# Altium integrated library Linear Technology Power Management LDO Linear Regulators.IntLib: 2339 symbols (part 5 of 131)
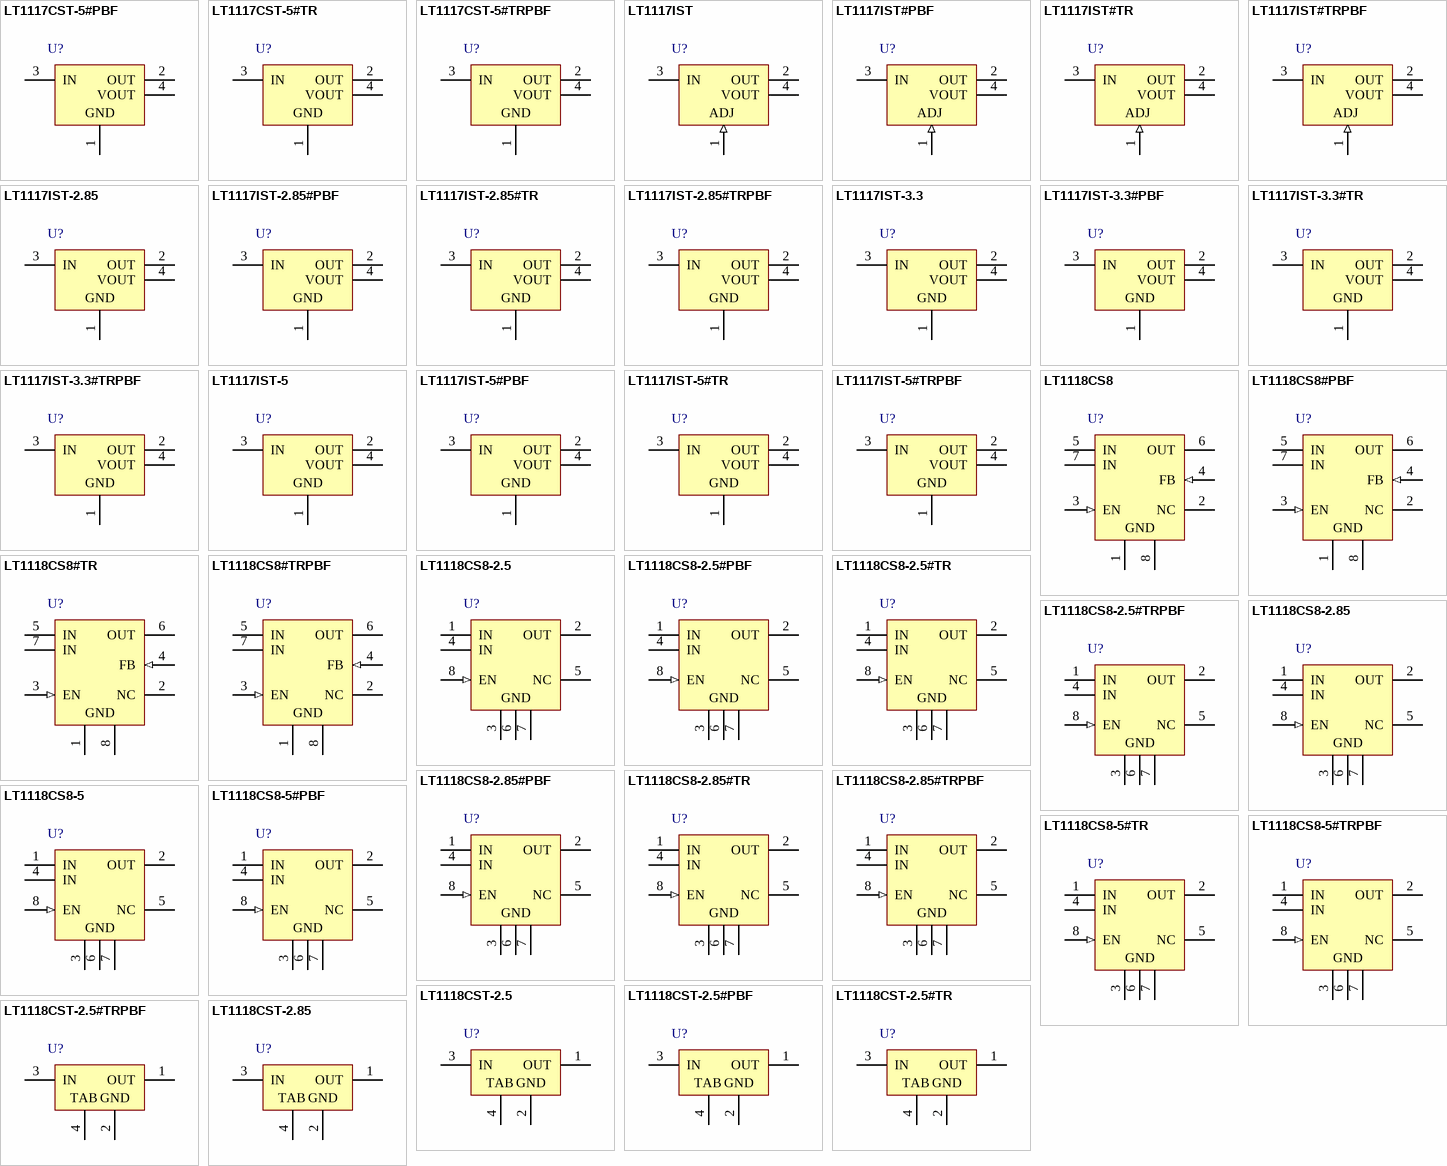
[diagram p73: symbols LT1117CST-5#PBF to LT1118CST-2.85]

## LT1118CS8-2.5#TR
designator U?
Low IQ, Low Dropout, 800 mA, Source and Sink Regulator, 3 to 15 V Vin, 2.5 V Vout, 8-pin SOIC (S8-8), 0 to 70 degC, Tape and Reel; Manufacturer: Linear Technology; PartNumber: LT1118CS8-2.5#TR; Discrete Pass Element: no; Dropout Voltage(V): 1; Iout(mA): 800; Isupply(mA): 0.6; Output Voltage: 2.5 V; PSRR(dB): 80; Vin Max(V): 15; Vin Min(V): 3; DatasheetVersion: Rev. D; PackageVersion: Rev. G, 03/2012; PackageReference: S8-8; PackageDescription: 8-Pin Plastic Small Outline (Narrow .150 Inch), Body 4.9 x 3.9 mm, Pitch 1.27 mm; Supplier 1: Digi-Key; Supplier Part Number 1: LT1118CS8-2.5#TR-ND; Number of Outputs: 1; Packing: Tape and Reel; RoHS: FALSE; Shutdown Current(uA): 1; Mounting Technology: Surface Mount; ComponentLink1Description: Manufacturer URL; ComponentLink1URL: http://www.linear.com/; ComponentLink2Description: Datasheet; ComponentLink2URL: http://cds.linear.com/docs/en/datasheet/1118fd.pdf; ComponentLink3Description: Package Specification; ComponentLink3URL: http://cds.linear.com/docs/en/packaging/05081610_G_SO8.pdf
footprint LT-S8-8_N (SOIC, 8-Leads, Body 4.9x3.9mm, Pitch 1.27mm, IPC Medium Density)
footprint LT-S8-8_L (SOIC, 8-Leads, Body 4.9x3.9mm, Pitch 1.27mm, IPC High Density)
footprint LT-S8-8_M (SOIC, 8-Leads, Body 4.9x3.9mm, Pitch 1.27mm, IPC Low Density)
pins: 1 IN (power) "Input Supply Pin. This pin should be decoupled with a 1uF or larger low ESR capacitor. The two IN pins on the SO-8 package must be directly connected on the printed circuit board to prevent voltage drops between the two (See Datasheet)", 2 OUT (power) "Regulated Output Voltage. Output can source or sink current. Current limit for sourcing and sinking current is provided to protect the device from fault conditons. The output must have a low ESR output fi lter capacitor. (See Datasheet)", 3 GND (power) "Ground Pin. The multiple GND pins on the SO-8 package are internally connected, but lowest load regulation errors will result if these pins are tightly connected on the printed circuit board. This will also aid heat (See Datasheet)", 4 IN (power) "Input Supply Pin. This pin should be decoupled with a 1uF or larger low ESR capacitor. The two IN pins on the SO-8 package must be directly connected on the printed circuit board to prevent voltage drops between the two (See Datasheet)", 5 NC, 6 GND (power) "Ground Pin. The multiple GND pins on the SO-8 package are internally connected, but lowest load regulation errors will result if these pins are tightly connected on the printed circuit board. This will also aid heat (See Datasheet)", 7 GND (power) "Ground Pin. The multiple GND pins on the SO-8 package are internally connected, but lowest load regulation errors will result if these pins are tightly connected on the printed circuit board. This will also aid heat (See Datasheet)", 8 EN (in) "TTL/CMOS Logic Input. A high level allows normal operation. A low level reduces supply current to zero. This pin is internally connected to VIN on 3-lead ST packaged devices."

## LT1118CS8-2.5#TRPBF
designator U?
Low IQ, Low Dropout, 800 mA, Source and Sink Regulator, 3 to 15 V Vin, 2.5 V Vout, 8-pin SOIC (S8-8), 0 to 70 degC, Pb-Free, Tape and Reel; Manufacturer: Linear Technology; PartNumber: LT1118CS8-2.5#TRPBF; Discrete Pass Element: no; Dropout Voltage(V): 1; Iout(mA): 800; Isupply(mA): 0.6; Output Voltage: 2.5 V; PSRR(dB): 80; Vin Max(V): 15; Vin Min(V): 3; DatasheetVersion: Rev. D; PackageVersion: Rev. G, 03/2012; PackageReference: S8-8; PackageDescription: 8-Pin Plastic Small Outline (Narrow .150 Inch), Body 4.9 x 3.9 mm, Pitch 1.27 mm; Supplier 1: Digi-Key; Supplier Part Number 1: LT1118CS8-2.5#TRPBF-ND; Number of Outputs: 1; Packing: Tape and Reel; RoHS: TRUE; Shutdown Current(uA): 1; Mounting Technology: Surface Mount; ComponentLink1Description: Manufacturer URL; ComponentLink1URL: http://www.linear.com/; ComponentLink2Description: Datasheet; ComponentLink2URL: http://cds.linear.com/docs/en/datasheet/1118fd.pdf; ComponentLink3Description: Package Specification; ComponentLink3URL: http://cds.linear.com/docs/en/packaging/05081610_G_SO8.pdf
footprint LT-S8-8_N (SOIC, 8-Leads, Body 4.9x3.9mm, Pitch 1.27mm, IPC Medium Density)
footprint LT-S8-8_L (SOIC, 8-Leads, Body 4.9x3.9mm, Pitch 1.27mm, IPC High Density)
footprint LT-S8-8_M (SOIC, 8-Leads, Body 4.9x3.9mm, Pitch 1.27mm, IPC Low Density)
pins: 1 IN (power) "Input Supply Pin. This pin should be decoupled with a 1uF or larger low ESR capacitor. The two IN pins on the SO-8 package must be directly connected on the printed circuit board to prevent voltage drops between the two (See Datasheet)", 2 OUT (power) "Regulated Output Voltage. Output can source or sink current. Current limit for sourcing and sinking current is provided to protect the device from fault conditons. The output must have a low ESR output fi lter capacitor. (See Datasheet)", 3 GND (power) "Ground Pin. The multiple GND pins on the SO-8 package are internally connected, but lowest load regulation errors will result if these pins are tightly connected on the printed circuit board. This will also aid heat (See Datasheet)", 4 IN (power) "Input Supply Pin. This pin should be decoupled with a 1uF or larger low ESR capacitor. The two IN pins on the SO-8 package must be directly connected on the printed circuit board to prevent voltage drops between the two (See Datasheet)", 5 NC, 6 GND (power) "Ground Pin. The multiple GND pins on the SO-8 package are internally connected, but lowest load regulation errors will result if these pins are tightly connected on the printed circuit board. This will also aid heat (See Datasheet)", 7 GND (power) "Ground Pin. The multiple GND pins on the SO-8 package are internally connected, but lowest load regulation errors will result if these pins are tightly connected on the printed circuit board. This will also aid heat (See Datasheet)", 8 EN (in) "TTL/CMOS Logic Input. A high level allows normal operation. A low level reduces supply current to zero. This pin is internally connected to VIN on 3-lead ST packaged devices."

## LT1118CS8-2.85
designator U?
Low IQ, Low Dropout, 800 mA, Source and Sink Regulator, 3 to 15 V Vin, 2.85 V Vout, 8-pin SOIC (S8-8), 0 to 70 degC; Manufacturer: Linear Technology; PartNumber: LT1118CS8-2.85; Discrete Pass Element: no; Dropout Voltage(V): 1; Iout(mA): 800; Isupply(mA): 0.6; Output Voltage: 2.85 V; PSRR(dB): 80; Vin Max(V): 15; Vin Min(V): 3; DatasheetVersion: Rev. D; PackageVersion: Rev. G, 03/2012; PackageReference: S8-8; PackageDescription: 8-Pin Plastic Small Outline (Narrow .150 Inch), Body 4.9 x 3.9 mm, Pitch 1.27 mm; Number of Outputs: 1; RoHS: FALSE; Shutdown Current(uA): 1; Mounting Technology: Surface Mount; ComponentLink1Description: Manufacturer URL; ComponentLink1URL: http://www.linear.com/; ComponentLink2Description: Datasheet; ComponentLink2URL: http://cds.linear.com/docs/en/datasheet/1118fd.pdf; ComponentLink3Description: Package Specification; ComponentLink3URL: http://cds.linear.com/docs/en/packaging/05081610_G_SO8.pdf
footprint LT-S8-8_N (SOIC, 8-Leads, Body 4.9x3.9mm, Pitch 1.27mm, IPC Medium Density)
footprint LT-S8-8_L (SOIC, 8-Leads, Body 4.9x3.9mm, Pitch 1.27mm, IPC High Density)
footprint LT-S8-8_M (SOIC, 8-Leads, Body 4.9x3.9mm, Pitch 1.27mm, IPC Low Density)
pins: 1 IN (power) "Input Supply Pin. This pin should be decoupled with a 1uF or larger low ESR capacitor. The two IN pins on the SO-8 package must be directly connected on the printed circuit board to prevent voltage drops between the two (See Datasheet)", 2 OUT (power) "Regulated Output Voltage. Output can source or sink current. Current limit for sourcing and sinking current is provided to protect the device from fault conditons. The output must have a low ESR output fi lter capacitor. (See Datasheet)", 3 GND (power) "Ground Pin. The multiple GND pins on the SO-8 package are internally connected, but lowest load regulation errors will result if these pins are tightly connected on the printed circuit board. This will also aid heat (See Datasheet)", 4 IN (power) "Input Supply Pin. This pin should be decoupled with a 1uF or larger low ESR capacitor. The two IN pins on the SO-8 package must be directly connected on the printed circuit board to prevent voltage drops between the two (See Datasheet)", 5 NC, 6 GND (power) "Ground Pin. The multiple GND pins on the SO-8 package are internally connected, but lowest load regulation errors will result if these pins are tightly connected on the printed circuit board. This will also aid heat (See Datasheet)", 7 GND (power) "Ground Pin. The multiple GND pins on the SO-8 package are internally connected, but lowest load regulation errors will result if these pins are tightly connected on the printed circuit board. This will also aid heat (See Datasheet)", 8 EN (in) "TTL/CMOS Logic Input. A high level allows normal operation. A low level reduces supply current to zero. This pin is internally connected to VIN on 3-lead ST packaged devices."

## LT1118CS8-2.85#PBF
designator U?
Low IQ, Low Dropout, 800 mA, Source and Sink Regulator, 3 to 15 V Vin, 2.85 V Vout, 8-pin SOIC (S8-8), 0 to 70 degC, Pb-Free; Manufacturer: Linear Technology; PartNumber: LT1118CS8-2.85#PBF; Discrete Pass Element: no; Dropout Voltage(V): 1; Iout(mA): 800; Isupply(mA): 0.6; Output Voltage: 2.85 V; PSRR(dB): 80; Vin Max(V): 15; Vin Min(V): 3; DatasheetVersion: Rev. D; PackageVersion: Rev. G, 03/2012; PackageReference: S8-8; PackageDescription: 8-Pin Plastic Small Outline (Narrow .150 Inch), Body 4.9 x 3.9 mm, Pitch 1.27 mm; Supplier 1: Digi-Key; Supplier Part Number 1: LT1118CS8-2.85#PBF-ND; Number of Outputs: 1; RoHS: TRUE; Shutdown Current(uA): 1; Mounting Technology: Surface Mount; ComponentLink1Description: Manufacturer URL; ComponentLink1URL: http://www.linear.com/; ComponentLink2Description: Datasheet; ComponentLink2URL: http://cds.linear.com/docs/en/datasheet/1118fd.pdf; ComponentLink3Description: Package Specification; ComponentLink3URL: http://cds.linear.com/docs/en/packaging/05081610_G_SO8.pdf
footprint LT-S8-8_N (SOIC, 8-Leads, Body 4.9x3.9mm, Pitch 1.27mm, IPC Medium Density)
footprint LT-S8-8_L (SOIC, 8-Leads, Body 4.9x3.9mm, Pitch 1.27mm, IPC High Density)
footprint LT-S8-8_M (SOIC, 8-Leads, Body 4.9x3.9mm, Pitch 1.27mm, IPC Low Density)
pins: 1 IN (power) "Input Supply Pin. This pin should be decoupled with a 1uF or larger low ESR capacitor. The two IN pins on the SO-8 package must be directly connected on the printed circuit board to prevent voltage drops between the two (See Datasheet)", 2 OUT (power) "Regulated Output Voltage. Output can source or sink current. Current limit for sourcing and sinking current is provided to protect the device from fault conditons. The output must have a low ESR output fi lter capacitor. (See Datasheet)", 3 GND (power) "Ground Pin. The multiple GND pins on the SO-8 package are internally connected, but lowest load regulation errors will result if these pins are tightly connected on the printed circuit board. This will also aid heat (See Datasheet)", 4 IN (power) "Input Supply Pin. This pin should be decoupled with a 1uF or larger low ESR capacitor. The two IN pins on the SO-8 package must be directly connected on the printed circuit board to prevent voltage drops between the two (See Datasheet)", 5 NC, 6 GND (power) "Ground Pin. The multiple GND pins on the SO-8 package are internally connected, but lowest load regulation errors will result if these pins are tightly connected on the printed circuit board. This will also aid heat (See Datasheet)", 7 GND (power) "Ground Pin. The multiple GND pins on the SO-8 package are internally connected, but lowest load regulation errors will result if these pins are tightly connected on the printed circuit board. This will also aid heat (See Datasheet)", 8 EN (in) "TTL/CMOS Logic Input. A high level allows normal operation. A low level reduces supply current to zero. This pin is internally connected to VIN on 3-lead ST packaged devices."

## LT1118CS8-2.85#TR
designator U?
Low IQ, Low Dropout, 800 mA, Source and Sink Regulator, 3 to 15 V Vin, 2.85 V Vout, 8-pin SOIC (S8-8), 0 to 70 degC, Tape and Reel; Manufacturer: Linear Technology; PartNumber: LT1118CS8-2.85#TR; Discrete Pass Element: no; Dropout Voltage(V): 1; Iout(mA): 800; Isupply(mA): 0.6; Output Voltage: 2.85 V; PSRR(dB): 80; Vin Max(V): 15; Vin Min(V): 3; DatasheetVersion: Rev. D; PackageVersion: Rev. G, 03/2012; PackageReference: S8-8; PackageDescription: 8-Pin Plastic Small Outline (Narrow .150 Inch), Body 4.9 x 3.9 mm, Pitch 1.27 mm; Supplier 1: Digi-Key; Supplier Part Number 1: LT1118CS8-2.85#TR-ND; Number of Outputs: 1; Packing: Tape and Reel; RoHS: FALSE; Shutdown Current(uA): 1; Mounting Technology: Surface Mount; ComponentLink1Description: Manufacturer URL; ComponentLink1URL: http://www.linear.com/; ComponentLink2Description: Datasheet; ComponentLink2URL: http://cds.linear.com/docs/en/datasheet/1118fd.pdf; ComponentLink3Description: Package Specification; ComponentLink3URL: http://cds.linear.com/docs/en/packaging/05081610_G_SO8.pdf
footprint LT-S8-8_N (SOIC, 8-Leads, Body 4.9x3.9mm, Pitch 1.27mm, IPC Medium Density)
footprint LT-S8-8_L (SOIC, 8-Leads, Body 4.9x3.9mm, Pitch 1.27mm, IPC High Density)
footprint LT-S8-8_M (SOIC, 8-Leads, Body 4.9x3.9mm, Pitch 1.27mm, IPC Low Density)
pins: 1 IN (power) "Input Supply Pin. This pin should be decoupled with a 1uF or larger low ESR capacitor. The two IN pins on the SO-8 package must be directly connected on the printed circuit board to prevent voltage drops between the two (See Datasheet)", 2 OUT (power) "Regulated Output Voltage. Output can source or sink current. Current limit for sourcing and sinking current is provided to protect the device from fault conditons. The output must have a low ESR output fi lter capacitor. (See Datasheet)", 3 GND (power) "Ground Pin. The multiple GND pins on the SO-8 package are internally connected, but lowest load regulation errors will result if these pins are tightly connected on the printed circuit board. This will also aid heat (See Datasheet)", 4 IN (power) "Input Supply Pin. This pin should be decoupled with a 1uF or larger low ESR capacitor. The two IN pins on the SO-8 package must be directly connected on the printed circuit board to prevent voltage drops between the two (See Datasheet)", 5 NC, 6 GND (power) "Ground Pin. The multiple GND pins on the SO-8 package are internally connected, but lowest load regulation errors will result if these pins are tightly connected on the printed circuit board. This will also aid heat (See Datasheet)", 7 GND (power) "Ground Pin. The multiple GND pins on the SO-8 package are internally connected, but lowest load regulation errors will result if these pins are tightly connected on the printed circuit board. This will also aid heat (See Datasheet)", 8 EN (in) "TTL/CMOS Logic Input. A high level allows normal operation. A low level reduces supply current to zero. This pin is internally connected to VIN on 3-lead ST packaged devices."

## LT1118CS8-2.85#TRPBF
designator U?
Low IQ, Low Dropout, 800 mA, Source and Sink Regulator, 3 to 15 V Vin, 2.85 V Vout, 8-pin SOIC (S8-8), 0 to 70 degC, Pb-Free, Tape and Reel; Manufacturer: Linear Technology; PartNumber: LT1118CS8-2.85#TRPBF; Discrete Pass Element: no; Dropout Voltage(V): 1; Iout(mA): 800; Isupply(mA): 0.6; Output Voltage: 2.85 V; PSRR(dB): 80; Vin Max(V): 15; Vin Min(V): 3; DatasheetVersion: Rev. D; PackageVersion: Rev. G, 03/2012; PackageReference: S8-8; PackageDescription: 8-Pin Plastic Small Outline (Narrow .150 Inch), Body 4.9 x 3.9 mm, Pitch 1.27 mm; Supplier 1: Digi-Key; Supplier Part Number 1: LT1118CS8-2.85#TRPBF-ND; Number of Outputs: 1; Packing: Tape and Reel; RoHS: TRUE; Shutdown Current(uA): 1; Mounting Technology: Surface Mount; ComponentLink1Description: Manufacturer URL; ComponentLink1URL: http://www.linear.com/; ComponentLink2Description: Datasheet; ComponentLink2URL: http://cds.linear.com/docs/en/datasheet/1118fd.pdf; ComponentLink3Description: Package Specification; ComponentLink3URL: http://cds.linear.com/docs/en/packaging/05081610_G_SO8.pdf
footprint LT-S8-8_N (SOIC, 8-Leads, Body 4.9x3.9mm, Pitch 1.27mm, IPC Medium Density)
footprint LT-S8-8_L (SOIC, 8-Leads, Body 4.9x3.9mm, Pitch 1.27mm, IPC High Density)
footprint LT-S8-8_M (SOIC, 8-Leads, Body 4.9x3.9mm, Pitch 1.27mm, IPC Low Density)
pins: 1 IN (power) "Input Supply Pin. This pin should be decoupled with a 1uF or larger low ESR capacitor. The two IN pins on the SO-8 package must be directly connected on the printed circuit board to prevent voltage drops between the two (See Datasheet)", 2 OUT (power) "Regulated Output Voltage. Output can source or sink current. Current limit for sourcing and sinking current is provided to protect the device from fault conditons. The output must have a low ESR output fi lter capacitor. (See Datasheet)", 3 GND (power) "Ground Pin. The multiple GND pins on the SO-8 package are internally connected, but lowest load regulation errors will result if these pins are tightly connected on the printed circuit board. This will also aid heat (See Datasheet)", 4 IN (power) "Input Supply Pin. This pin should be decoupled with a 1uF or larger low ESR capacitor. The two IN pins on the SO-8 package must be directly connected on the printed circuit board to prevent voltage drops between the two (See Datasheet)", 5 NC, 6 GND (power) "Ground Pin. The multiple GND pins on the SO-8 package are internally connected, but lowest load regulation errors will result if these pins are tightly connected on the printed circuit board. This will also aid heat (See Datasheet)", 7 GND (power) "Ground Pin. The multiple GND pins on the SO-8 package are internally connected, but lowest load regulation errors will result if these pins are tightly connected on the printed circuit board. This will also aid heat (See Datasheet)", 8 EN (in) "TTL/CMOS Logic Input. A high level allows normal operation. A low level reduces supply current to zero. This pin is internally connected to VIN on 3-lead ST packaged devices."

## LT1118CS8-5
designator U?
Low IQ, Low Dropout, 800 mA, Source and Sink Regulator, 3 to 15 V Vin, 5 V Vout, 8-pin SOIC (S8-8), 0 to 70 degC; Manufacturer: Linear Technology; PartNumber: LT1118CS8-5; Discrete Pass Element: no; Dropout Voltage(V): 1; Iout(mA): 800; Isupply(mA): 0.6; Output Voltage: 5 V; PSRR(dB): 80; Vin Max(V): 15; Vin Min(V): 3; DatasheetVersion: Rev. D; PackageVersion: Rev. G, 03/2012; PackageReference: S8-8; PackageDescription: 8-Pin Plastic Small Outline (Narrow .150 Inch), Body 4.9 x 3.9 mm, Pitch 1.27 mm; Supplier 1: Digi-Key; Supplier Part Number 1: LT1118CS8-5-ND; Number of Outputs: 1; RoHS: FALSE; Shutdown Current(uA): 1; Mounting Technology: Surface Mount; ComponentLink1Description: Manufacturer URL; ComponentLink1URL: http://www.linear.com/; ComponentLink2Description: Datasheet; ComponentLink2URL: http://cds.linear.com/docs/en/datasheet/1118fd.pdf; ComponentLink3Description: Package Specification; ComponentLink3URL: http://cds.linear.com/docs/en/packaging/05081610_G_SO8.pdf
footprint LT-S8-8_N (SOIC, 8-Leads, Body 4.9x3.9mm, Pitch 1.27mm, IPC Medium Density)
footprint LT-S8-8_L (SOIC, 8-Leads, Body 4.9x3.9mm, Pitch 1.27mm, IPC High Density)
footprint LT-S8-8_M (SOIC, 8-Leads, Body 4.9x3.9mm, Pitch 1.27mm, IPC Low Density)
pins: 1 IN (power) "Input Supply Pin. This pin should be decoupled with a 1uF or larger low ESR capacitor. The two IN pins on the SO-8 package must be directly connected on the printed circuit board to prevent voltage drops between the two (See Datasheet)", 2 OUT (power) "Regulated Output Voltage. Output can source or sink current. Current limit for sourcing and sinking current is provided to protect the device from fault conditons. The output must have a low ESR output fi lter capacitor. (See Datasheet)", 3 GND (power) "Ground Pin. The multiple GND pins on the SO-8 package are internally connected, but lowest load regulation errors will result if these pins are tightly connected on the printed circuit board. This will also aid heat (See Datasheet)", 4 IN (power) "Input Supply Pin. This pin should be decoupled with a 1uF or larger low ESR capacitor. The two IN pins on the SO-8 package must be directly connected on the printed circuit board to prevent voltage drops between the two (See Datasheet)", 5 NC, 6 GND (power) "Ground Pin. The multiple GND pins on the SO-8 package are internally connected, but lowest load regulation errors will result if these pins are tightly connected on the printed circuit board. This will also aid heat (See Datasheet)", 7 GND (power) "Ground Pin. The multiple GND pins on the SO-8 package are internally connected, but lowest load regulation errors will result if these pins are tightly connected on the printed circuit board. This will also aid heat (See Datasheet)", 8 EN (in) "TTL/CMOS Logic Input. A high level allows normal operation. A low level reduces supply current to zero. This pin is internally connected to VIN on 3-lead ST packaged devices."

## LT1118CS8-5#PBF
designator U?
Low IQ, Low Dropout, 800 mA, Source and Sink Regulator, 3 to 15 V Vin, 5 V Vout, 8-pin SOIC (S8-8), 0 to 70 degC, Pb-Free; Manufacturer: Linear Technology; PartNumber: LT1118CS8-5#PBF; Discrete Pass Element: no; Dropout Voltage(V): 1; Iout(mA): 800; Isupply(mA): 0.6; Output Voltage: 5 V; PSRR(dB): 80; Vin Max(V): 15; Vin Min(V): 3; DatasheetVersion: Rev. D; PackageVersion: Rev. G, 03/2012; PackageReference: S8-8; PackageDescription: 8-Pin Plastic Small Outline (Narrow .150 Inch), Body 4.9 x 3.9 mm, Pitch 1.27 mm; Supplier 1: Digi-Key; Supplier Part Number 1: LT1118CS8-5#PBF-ND; Number of Outputs: 1; RoHS: TRUE; Shutdown Current(uA): 1; Mounting Technology: Surface Mount; ComponentLink1Description: Manufacturer URL; ComponentLink1URL: http://www.linear.com/; ComponentLink2Description: Datasheet; ComponentLink2URL: http://cds.linear.com/docs/en/datasheet/1118fd.pdf; ComponentLink3Description: Package Specification; ComponentLink3URL: http://cds.linear.com/docs/en/packaging/05081610_G_SO8.pdf
footprint LT-S8-8_N (SOIC, 8-Leads, Body 4.9x3.9mm, Pitch 1.27mm, IPC Medium Density)
footprint LT-S8-8_L (SOIC, 8-Leads, Body 4.9x3.9mm, Pitch 1.27mm, IPC High Density)
footprint LT-S8-8_M (SOIC, 8-Leads, Body 4.9x3.9mm, Pitch 1.27mm, IPC Low Density)
pins: 1 IN (power) "Input Supply Pin. This pin should be decoupled with a 1uF or larger low ESR capacitor. The two IN pins on the SO-8 package must be directly connected on the printed circuit board to prevent voltage drops between the two (See Datasheet)", 2 OUT (power) "Regulated Output Voltage. Output can source or sink current. Current limit for sourcing and sinking current is provided to protect the device from fault conditons. The output must have a low ESR output fi lter capacitor. (See Datasheet)", 3 GND (power) "Ground Pin. The multiple GND pins on the SO-8 package are internally connected, but lowest load regulation errors will result if these pins are tightly connected on the printed circuit board. This will also aid heat (See Datasheet)", 4 IN (power) "Input Supply Pin. This pin should be decoupled with a 1uF or larger low ESR capacitor. The two IN pins on the SO-8 package must be directly connected on the printed circuit board to prevent voltage drops between the two (See Datasheet)", 5 NC, 6 GND (power) "Ground Pin. The multiple GND pins on the SO-8 package are internally connected, but lowest load regulation errors will result if these pins are tightly connected on the printed circuit board. This will also aid heat (See Datasheet)", 7 GND (power) "Ground Pin. The multiple GND pins on the SO-8 package are internally connected, but lowest load regulation errors will result if these pins are tightly connected on the printed circuit board. This will also aid heat (See Datasheet)", 8 EN (in) "TTL/CMOS Logic Input. A high level allows normal operation. A low level reduces supply current to zero. This pin is internally connected to VIN on 3-lead ST packaged devices."

## LT1118CS8-5#TR
designator U?
Low IQ, Low Dropout, 800 mA, Source and Sink Regulator, 3 to 15 V Vin, 5 V Vout, 8-pin SOIC (S8-8), 0 to 70 degC, Tape and Reel; Manufacturer: Linear Technology; PartNumber: LT1118CS8-5#TR; Discrete Pass Element: no; Dropout Voltage(V): 1; Iout(mA): 800; Isupply(mA): 0.6; Output Voltage: 5 V; PSRR(dB): 80; Vin Max(V): 15; Vin Min(V): 3; DatasheetVersion: Rev. D; PackageVersion: Rev. G, 03/2012; PackageReference: S8-8; PackageDescription: 8-Pin Plastic Small Outline (Narrow .150 Inch), Body 4.9 x 3.9 mm, Pitch 1.27 mm; Supplier 1: Digi-Key; Supplier Part Number 1: LT1118CS8-5#TR-ND; Number of Outputs: 1; Packing: Tape and Reel; RoHS: FALSE; Shutdown Current(uA): 1; Mounting Technology: Surface Mount; ComponentLink1Description: Manufacturer URL; ComponentLink1URL: http://www.linear.com/; ComponentLink2Description: Datasheet; ComponentLink2URL: http://cds.linear.com/docs/en/datasheet/1118fd.pdf; ComponentLink3Description: Package Specification; ComponentLink3URL: http://cds.linear.com/docs/en/packaging/05081610_G_SO8.pdf
footprint LT-S8-8_N (SOIC, 8-Leads, Body 4.9x3.9mm, Pitch 1.27mm, IPC Medium Density)
footprint LT-S8-8_L (SOIC, 8-Leads, Body 4.9x3.9mm, Pitch 1.27mm, IPC High Density)
footprint LT-S8-8_M (SOIC, 8-Leads, Body 4.9x3.9mm, Pitch 1.27mm, IPC Low Density)
pins: 1 IN (power) "Input Supply Pin. This pin should be decoupled with a 1uF or larger low ESR capacitor. The two IN pins on the SO-8 package must be directly connected on the printed circuit board to prevent voltage drops between the two (See Datasheet)", 2 OUT (power) "Regulated Output Voltage. Output can source or sink current. Current limit for sourcing and sinking current is provided to protect the device from fault conditons. The output must have a low ESR output fi lter capacitor. (See Datasheet)", 3 GND (power) "Ground Pin. The multiple GND pins on the SO-8 package are internally connected, but lowest load regulation errors will result if these pins are tightly connected on the printed circuit board. This will also aid heat (See Datasheet)", 4 IN (power) "Input Supply Pin. This pin should be decoupled with a 1uF or larger low ESR capacitor. The two IN pins on the SO-8 package must be directly connected on the printed circuit board to prevent voltage drops between the two (See Datasheet)", 5 NC, 6 GND (power) "Ground Pin. The multiple GND pins on the SO-8 package are internally connected, but lowest load regulation errors will result if these pins are tightly connected on the printed circuit board. This will also aid heat (See Datasheet)", 7 GND (power) "Ground Pin. The multiple GND pins on the SO-8 package are internally connected, but lowest load regulation errors will result if these pins are tightly connected on the printed circuit board. This will also aid heat (See Datasheet)", 8 EN (in) "TTL/CMOS Logic Input. A high level allows normal operation. A low level reduces supply current to zero. This pin is internally connected to VIN on 3-lead ST packaged devices."

## LT1118CS8-5#TRPBF
designator U?
Low IQ, Low Dropout, 800 mA, Source and Sink Regulator, 3 to 15 V Vin, 5 V Vout, 8-pin SOIC (S8-8), 0 to 70 degC, Pb-Free, Tape and Reel; Manufacturer: Linear Technology; PartNumber: LT1118CS8-5#TRPBF; Discrete Pass Element: no; Dropout Voltage(V): 1; Iout(mA): 800; Isupply(mA): 0.6; Output Voltage: 5 V; PSRR(dB): 80; Vin Max(V): 15; Vin Min(V): 3; DatasheetVersion: Rev. D; PackageVersion: Rev. G, 03/2012; PackageReference: S8-8; PackageDescription: 8-Pin Plastic Small Outline (Narrow .150 Inch), Body 4.9 x 3.9 mm, Pitch 1.27 mm; Supplier 1: Digi-Key; Supplier Part Number 1: LT1118CS8-5#TRPBF-ND; Number of Outputs: 1; Packing: Tape and Reel; RoHS: TRUE; Shutdown Current(uA): 1; Mounting Technology: Surface Mount; ComponentLink1Description: Manufacturer URL; ComponentLink1URL: http://www.linear.com/; ComponentLink2Description: Datasheet; ComponentLink2URL: http://cds.linear.com/docs/en/datasheet/1118fd.pdf; ComponentLink3Description: Package Specification; ComponentLink3URL: http://cds.linear.com/docs/en/packaging/05081610_G_SO8.pdf
footprint LT-S8-8_N (SOIC, 8-Leads, Body 4.9x3.9mm, Pitch 1.27mm, IPC Medium Density)
footprint LT-S8-8_L (SOIC, 8-Leads, Body 4.9x3.9mm, Pitch 1.27mm, IPC High Density)
footprint LT-S8-8_M (SOIC, 8-Leads, Body 4.9x3.9mm, Pitch 1.27mm, IPC Low Density)
pins: 1 IN (power) "Input Supply Pin. This pin should be decoupled with a 1uF or larger low ESR capacitor. The two IN pins on the SO-8 package must be directly connected on the printed circuit board to prevent voltage drops between the two (See Datasheet)", 2 OUT (power) "Regulated Output Voltage. Output can source or sink current. Current limit for sourcing and sinking current is provided to protect the device from fault conditons. The output must have a low ESR output fi lter capacitor. (See Datasheet)", 3 GND (power) "Ground Pin. The multiple GND pins on the SO-8 package are internally connected, but lowest load regulation errors will result if these pins are tightly connected on the printed circuit board. This will also aid heat (See Datasheet)", 4 IN (power) "Input Supply Pin. This pin should be decoupled with a 1uF or larger low ESR capacitor. The two IN pins on the SO-8 package must be directly connected on the printed circuit board to prevent voltage drops between the two (See Datasheet)", 5 NC, 6 GND (power) "Ground Pin. The multiple GND pins on the SO-8 package are internally connected, but lowest load regulation errors will result if these pins are tightly connected on the printed circuit board. This will also aid heat (See Datasheet)", 7 GND (power) "Ground Pin. The multiple GND pins on the SO-8 package are internally connected, but lowest load regulation errors will result if these pins are tightly connected on the printed circuit board. This will also aid heat (See Datasheet)", 8 EN (in) "TTL/CMOS Logic Input. A high level allows normal operation. A low level reduces supply current to zero. This pin is internally connected to VIN on 3-lead ST packaged devices."

## LT1118CST-2.5
designator U?
Low IQ, Low Dropout, 800 mA, Source and Sink Regulator, 3 to 15 V Vin, 2.5 V Vout, 3-pin SOT223 (ST-3), 0 to 70 degC; Manufacturer: Linear Technology; PartNumber: LT1118CST-2.5; Discrete Pass Element: no; Dropout Voltage(V): 1; Iout(mA): 800; Isupply(mA): 0.6; Output Voltage: 2.5 V; PSRR(dB): 80; Vin Max(V): 15; Vin Min(V): 3; DatasheetVersion: Rev. D; PackageVersion: Jun-10; PackageReference: ST-3; PackageDescription: 3-Pin Plastic SOT-223, 3.505 x 6.505 mm Body, Pitch 2.3 mm; Supplier 1: Digi-Key; Supplier Part Number 1: LT1118CST-2.5-ND; Supplier 2: Newark; Supplier Part Number 2: 57M1824; Number of Outputs: 1; RoHS: FALSE; Shutdown Current(uA): 1; Mounting Technology: Surface Mount; ComponentLink1Description: Manufacturer URL; ComponentLink1URL: http://www.linear.com/; ComponentLink2Description: Datasheet; ComponentLink2URL: http://cds.linear.com/docs/en/datasheet/1118fd.pdf; ComponentLink3Description: Package Specification; ComponentLink3URL: http://cds.linear.com/docs/en/packaging/SOT_3_05-08-1630.pdf
footprint LT-ST-3-SOT-223_N (SOT223, 4-Leads, Body 6.505x3.505mm, Pitch 2.3mm, IPC Medium Density)
footprint LT-ST-3-SOT-223_L (SOT223, 4-Leads, Body 6.505x3.505mm, Pitch 2.3mm, IPC High Density)
footprint LT-ST-3-SOT-223_M (SOT223, 4-Leads, Body 6.505x3.505mm, Pitch 2.3mm, IPC Low Density)
pins: 1 OUT (power) "Regulated Output Voltage. Output can source or sink current. Current limit for sourcing and sinking current is provided to protect the device from fault conditons. The output must have a low ESR output filter capacitor. COUT (See Datasheet)", 2 GND (power) "Ground Pin. The multiple GND pins on the SO-8 package are internally connected, but lowest load regulation errors will result if these pins are tightly connected on the printed circuit board. This will also aid heat (See Datasheet)", 3 IN (power) "Input Supply Pin. This pin should be decoupled with a 1uF or larger low ESR capacitor. The two IN pins on the SO-8 package must be directly connected on the printed circuit board to prevent voltage drops between the two (See Datasheet)", 4 TAB (power) "Ground Pin. The multiple GND pins on the SO-8 package are internally connected, but lowest load regulation errors will result if these pins are tightly connected on the printed circuit board. This will also aid heat (See Datasheet)"

## LT1118CST-2.5#PBF
designator U?
Low IQ, Low Dropout, 800 mA, Source and Sink Regulator, 3 to 15 V Vin, 2.5 V Vout, 3-pin SOT223 (ST-3), 0 to 70 degC, Pb-Free; Manufacturer: Linear Technology; PartNumber: LT1118CST-2.5#PBF; Discrete Pass Element: no; Dropout Voltage(V): 1; Iout(mA): 800; Isupply(mA): 0.6; Output Voltage: 2.5 V; PSRR(dB): 80; Vin Max(V): 15; Vin Min(V): 3; DatasheetVersion: Rev. D; PackageVersion: Jun-10; PackageReference: ST-3; PackageDescription: 3-Pin Plastic SOT-223, 3.505 x 6.505 mm Body, Pitch 2.3 mm; Supplier 1: Digi-Key; Supplier Part Number 1: LT1118CST-2.5#PBF-ND; Supplier 2: Farnell; Supplier Part Number 2: 1663359; Supplier 3: Newark; Supplier Part Number 3: 57M1825; Number of Outputs: 1; RoHS: TRUE; Shutdown Current(uA): 1; Mounting Technology: Surface Mount; ComponentLink1Description: Manufacturer URL; ComponentLink1URL: http://www.linear.com/; ComponentLink2Description: Datasheet; ComponentLink2URL: http://cds.linear.com/docs/en/datasheet/1118fd.pdf; ComponentLink3Description: Package Specification; ComponentLink3URL: http://cds.linear.com/docs/en/packaging/SOT_3_05-08-1630.pdf
footprint LT-ST-3-SOT-223_N (SOT223, 4-Leads, Body 6.505x3.505mm, Pitch 2.3mm, IPC Medium Density)
footprint LT-ST-3-SOT-223_L (SOT223, 4-Leads, Body 6.505x3.505mm, Pitch 2.3mm, IPC High Density)
footprint LT-ST-3-SOT-223_M (SOT223, 4-Leads, Body 6.505x3.505mm, Pitch 2.3mm, IPC Low Density)
pins: 1 OUT (power) "Regulated Output Voltage. Output can source or sink current. Current limit for sourcing and sinking current is provided to protect the device from fault conditons. The output must have a low ESR output filter capacitor. COUT (See Datasheet)", 2 GND (power) "Ground Pin. The multiple GND pins on the SO-8 package are internally connected, but lowest load regulation errors will result if these pins are tightly connected on the printed circuit board. This will also aid heat (See Datasheet)", 3 IN (power) "Input Supply Pin. This pin should be decoupled with a 1uF or larger low ESR capacitor. The two IN pins on the SO-8 package must be directly connected on the printed circuit board to prevent voltage drops between the two (See Datasheet)", 4 TAB (power) "Ground Pin. The multiple GND pins on the SO-8 package are internally connected, but lowest load regulation errors will result if these pins are tightly connected on the printed circuit board. This will also aid heat (See Datasheet)"

## LT1118CST-2.5#TR
designator U?
Low IQ, Low Dropout, 800 mA, Source and Sink Regulator, 3 to 15 V Vin, 2.5 V Vout, 3-pin SOT223 (ST-3), 0 to 70 degC, Tape and Reel; Manufacturer: Linear Technology; PartNumber: LT1118CST-2.5#TR; Discrete Pass Element: no; Dropout Voltage(V): 1; Iout(mA): 800; Isupply(mA): 0.6; Output Voltage: 2.5 V; PSRR(dB): 80; Vin Max(V): 15; Vin Min(V): 3; DatasheetVersion: Rev. D; PackageVersion: Jun-10; PackageReference: ST-3; PackageDescription: 3-Pin Plastic SOT-223, 3.505 x 6.505 mm Body, Pitch 2.3 mm; Supplier 1: Digi-Key; Supplier Part Number 1: LT1118CST-2.5#TR-ND; Supplier 2: Newark; Supplier Part Number 2: 57M1826; Number of Outputs: 1; Packing: Tape and Reel; RoHS: FALSE; Shutdown Current(uA): 1; Mounting Technology: Surface Mount; ComponentLink1Description: Manufacturer URL; ComponentLink1URL: http://www.linear.com/; ComponentLink2Description: Datasheet; ComponentLink2URL: http://cds.linear.com/docs/en/datasheet/1118fd.pdf; ComponentLink3Description: Package Specification; ComponentLink3URL: http://cds.linear.com/docs/en/packaging/SOT_3_05-08-1630.pdf
footprint LT-ST-3-SOT-223_N (SOT223, 4-Leads, Body 6.505x3.505mm, Pitch 2.3mm, IPC Medium Density)
footprint LT-ST-3-SOT-223_L (SOT223, 4-Leads, Body 6.505x3.505mm, Pitch 2.3mm, IPC High Density)
footprint LT-ST-3-SOT-223_M (SOT223, 4-Leads, Body 6.505x3.505mm, Pitch 2.3mm, IPC Low Density)
pins: 1 OUT (power) "Regulated Output Voltage. Output can source or sink current. Current limit for sourcing and sinking current is provided to protect the device from fault conditons. The output must have a low ESR output filter capacitor. COUT (See Datasheet)", 2 GND (power) "Ground Pin. The multiple GND pins on the SO-8 package are internally connected, but lowest load regulation errors will result if these pins are tightly connected on the printed circuit board. This will also aid heat (See Datasheet)", 3 IN (power) "Input Supply Pin. This pin should be decoupled with a 1uF or larger low ESR capacitor. The two IN pins on the SO-8 package must be directly connected on the printed circuit board to prevent voltage drops between the two (See Datasheet)", 4 TAB (power) "Ground Pin. The multiple GND pins on the SO-8 package are internally connected, but lowest load regulation errors will result if these pins are tightly connected on the printed circuit board. This will also aid heat (See Datasheet)"

## LT1118CST-2.5#TRPBF
designator U?
Low IQ, Low Dropout, 800 mA, Source and Sink Regulator, 3 to 15 V Vin, 2.5 V Vout, 3-pin SOT223 (ST-3), 0 to 70 degC, Pb-Free, Tape and Reel; Manufacturer: Linear Technology; PartNumber: LT1118CST-2.5#TRPBF; Discrete Pass Element: no; Dropout Voltage(V): 1; Iout(mA): 800; Isupply(mA): 0.6; Output Voltage: 2.5 V; PSRR(dB): 80; Vin Max(V): 15; Vin Min(V): 3; DatasheetVersion: Rev. D; PackageVersion: Jun-10; PackageReference: ST-3; PackageDescription: 3-Pin Plastic SOT-223, 3.505 x 6.505 mm Body, Pitch 2.3 mm; Supplier 1: Digi-Key; Supplier Part Number 1: LT1118CST-2.5#TRPBF-ND; Supplier 2: Newark; Supplier Part Number 2: 57M1827; Number of Outputs: 1; Packing: Tape and Reel; RoHS: TRUE; Shutdown Current(uA): 1; Mounting Technology: Surface Mount; ComponentLink1Description: Manufacturer URL; ComponentLink1URL: http://www.linear.com/; ComponentLink2Description: Datasheet; ComponentLink2URL: http://cds.linear.com/docs/en/datasheet/1118fd.pdf; ComponentLink3Description: Package Specification; ComponentLink3URL: http://cds.linear.com/docs/en/packaging/SOT_3_05-08-1630.pdf
footprint LT-ST-3-SOT-223_N (SOT223, 4-Leads, Body 6.505x3.505mm, Pitch 2.3mm, IPC Medium Density)
footprint LT-ST-3-SOT-223_L (SOT223, 4-Leads, Body 6.505x3.505mm, Pitch 2.3mm, IPC High Density)
footprint LT-ST-3-SOT-223_M (SOT223, 4-Leads, Body 6.505x3.505mm, Pitch 2.3mm, IPC Low Density)
pins: 1 OUT (power) "Regulated Output Voltage. Output can source or sink current. Current limit for sourcing and sinking current is provided to protect the device from fault conditons. The output must have a low ESR output filter capacitor. COUT (See Datasheet)", 2 GND (power) "Ground Pin. The multiple GND pins on the SO-8 package are internally connected, but lowest load regulation errors will result if these pins are tightly connected on the printed circuit board. This will also aid heat (See Datasheet)", 3 IN (power) "Input Supply Pin. This pin should be decoupled with a 1uF or larger low ESR capacitor. The two IN pins on the SO-8 package must be directly connected on the printed circuit board to prevent voltage drops between the two (See Datasheet)", 4 TAB (power) "Ground Pin. The multiple GND pins on the SO-8 package are internally connected, but lowest load regulation errors will result if these pins are tightly connected on the printed circuit board. This will also aid heat (See Datasheet)"

## LT1118CST-2.85
designator U?
Low IQ, Low Dropout, 800 mA, Source and Sink Regulator, 3 to 15 V Vin, 2.85 V Vout, 3-pin SOT223 (ST-3), 0 to 70 degC; Manufacturer: Linear Technology; PartNumber: LT1118CST-2.85; Discrete Pass Element: no; Dropout Voltage(V): 1; Iout(mA): 800; Isupply(mA): 0.6; Output Voltage: 2.85 V; PSRR(dB): 80; Vin Max(V): 15; Vin Min(V): 3; DatasheetVersion: Rev. D; PackageVersion: Jun-10; PackageReference: ST-3; PackageDescription: 3-Pin Plastic SOT-223, 3.505 x 6.505 mm Body, Pitch 2.3 mm; Supplier 1: Digi-Key; Supplier Part Number 1: LT1118CST-2.85-ND; Number of Outputs: 1; RoHS: FALSE; Shutdown Current(uA): 1; Mounting Technology: Surface Mount; ComponentLink1Description: Manufacturer URL; ComponentLink1URL: http://www.linear.com/; ComponentLink2Description: Datasheet; ComponentLink2URL: http://cds.linear.com/docs/en/datasheet/1118fd.pdf; ComponentLink3Description: Package Specification; ComponentLink3URL: http://cds.linear.com/docs/en/packaging/SOT_3_05-08-1630.pdf
footprint LT-ST-3-SOT-223_N (SOT223, 4-Leads, Body 6.505x3.505mm, Pitch 2.3mm, IPC Medium Density)
footprint LT-ST-3-SOT-223_L (SOT223, 4-Leads, Body 6.505x3.505mm, Pitch 2.3mm, IPC High Density)
footprint LT-ST-3-SOT-223_M (SOT223, 4-Leads, Body 6.505x3.505mm, Pitch 2.3mm, IPC Low Density)
pins: 1 OUT (power) "Regulated Output Voltage. Output can source or sink current. Current limit for sourcing and sinking current is provided to protect the device from fault conditons. The output must have a low ESR output filter capacitor. COUT (See Datasheet)", 2 GND (power) "Ground Pin. The multiple GND pins on the SO-8 package are internally connected, but lowest load regulation errors will result if these pins are tightly connected on the printed circuit board. This will also aid heat (See Datasheet)", 3 IN (power) "Input Supply Pin. This pin should be decoupled with a 1uF or larger low ESR capacitor. The two IN pins on the SO-8 package must be directly connected on the printed circuit board to prevent voltage drops between the two (See Datasheet)", 4 TAB (power) "Ground Pin. The multiple GND pins on the SO-8 package are internally connected, but lowest load regulation errors will result if these pins are tightly connected on the printed circuit board. This will also aid heat (See Datasheet)"

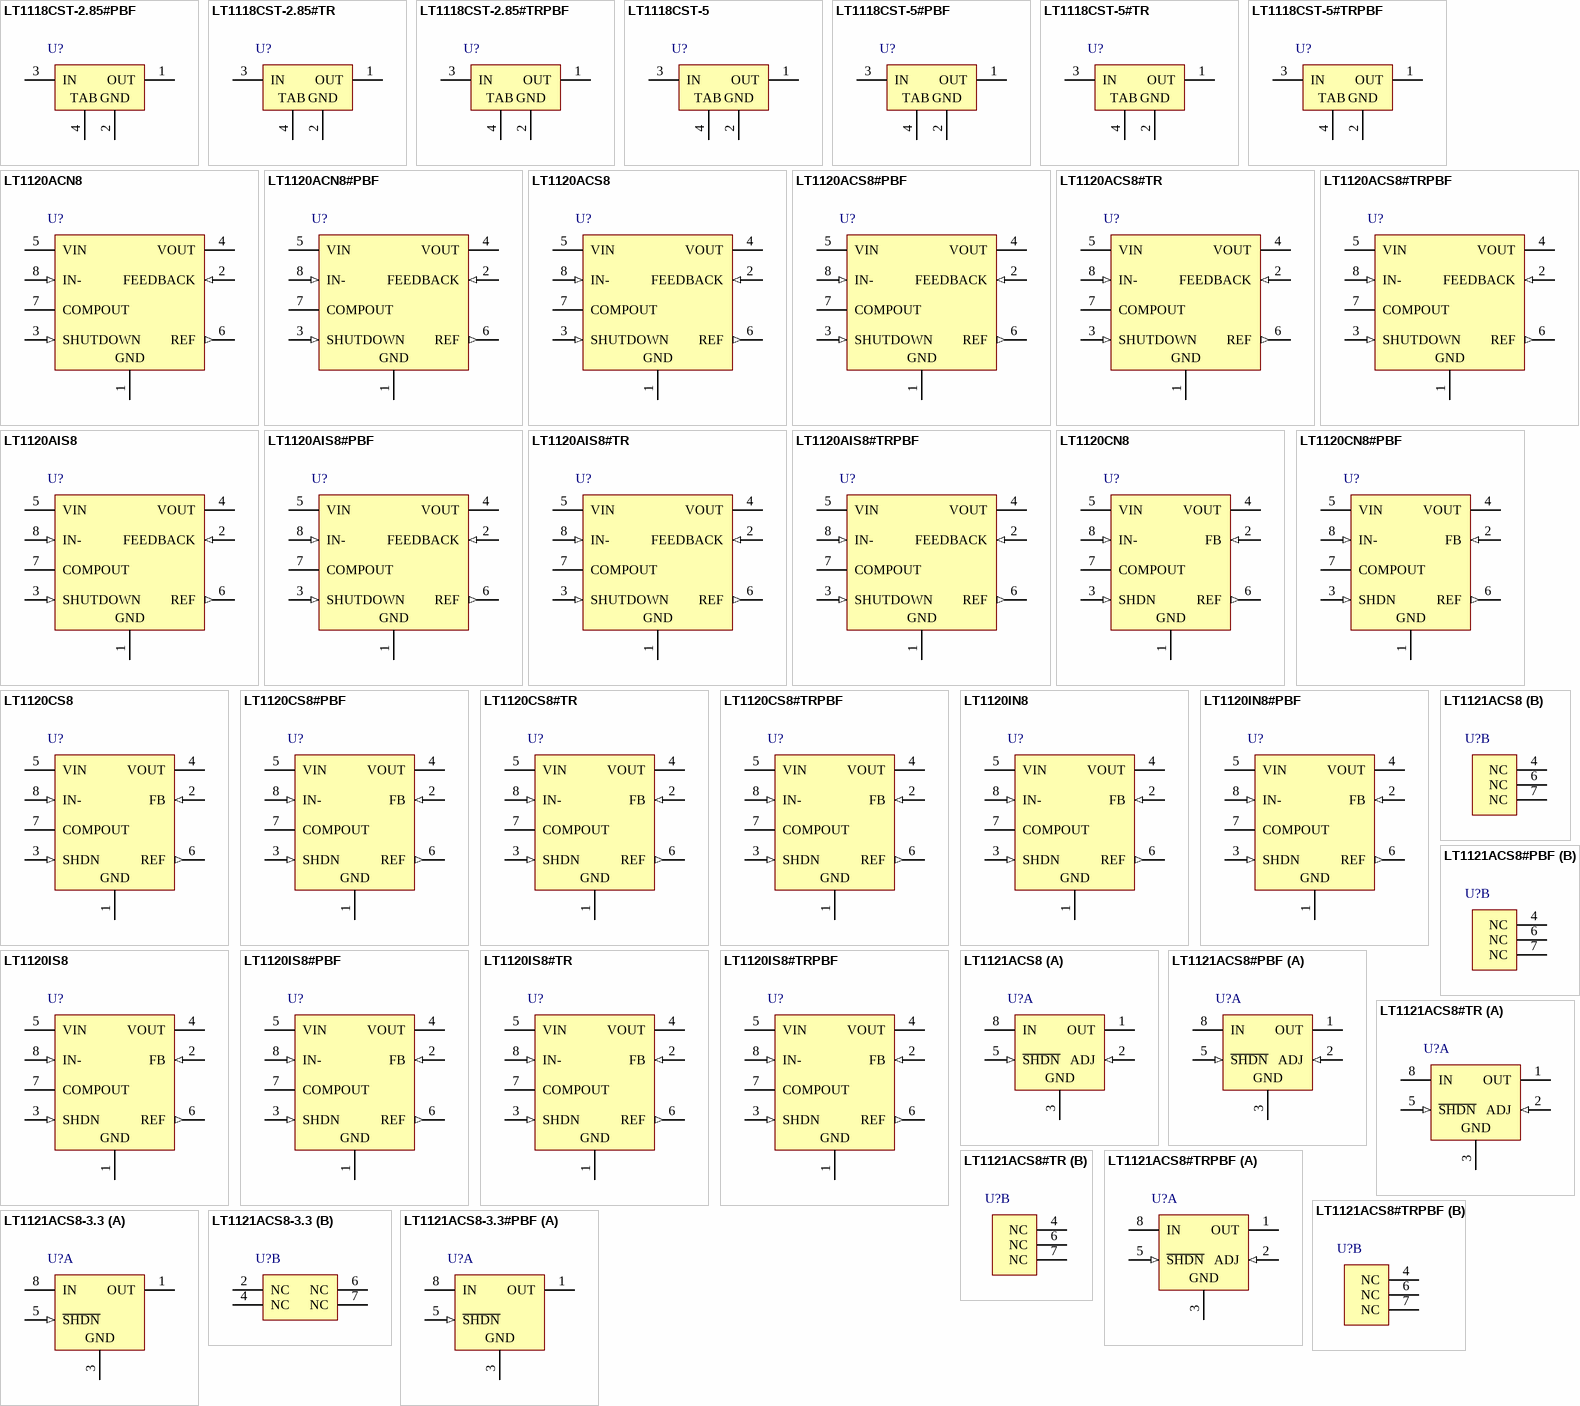
[diagram p4: symbols LT1118CST-2.85#PBF to LT1121ACS8-3.3#PBF]

## LT1118CST-2.85#PBF
designator U?
Low IQ, Low Dropout, 800 mA, Source and Sink Regulator, 3 to 15 V Vin, 2.85 V Vout, 3-pin SOT223 (ST-3), 0 to 70 degC, Pb-Free; Manufacturer: Linear Technology; PartNumber: LT1118CST-2.85#PBF; Discrete Pass Element: no; Dropout Voltage(V): 1; Iout(mA): 800; Isupply(mA): 0.6; Output Voltage: 2.85 V; PSRR(dB): 80; Vin Max(V): 15; Vin Min(V): 3; DatasheetVersion: Rev. D; PackageVersion: Jun-10; PackageReference: ST-3; PackageDescription: 3-Pin Plastic SOT-223, 3.505 x 6.505 mm Body, Pitch 2.3 mm; Supplier 1: Digi-Key; Supplier Part Number 1: LT1118CST-2.85#PBF-ND; Number of Outputs: 1; RoHS: TRUE; Shutdown Current(uA): 1; Mounting Technology: Surface Mount; ComponentLink1Description: Manufacturer URL; ComponentLink1URL: http://www.linear.com/; ComponentLink2Description: Datasheet; ComponentLink2URL: http://cds.linear.com/docs/en/datasheet/1118fd.pdf; ComponentLink3Description: Package Specification; ComponentLink3URL: http://cds.linear.com/docs/en/packaging/SOT_3_05-08-1630.pdf
footprint LT-ST-3-SOT-223_N (SOT223, 4-Leads, Body 6.505x3.505mm, Pitch 2.3mm, IPC Medium Density)
footprint LT-ST-3-SOT-223_L (SOT223, 4-Leads, Body 6.505x3.505mm, Pitch 2.3mm, IPC High Density)
footprint LT-ST-3-SOT-223_M (SOT223, 4-Leads, Body 6.505x3.505mm, Pitch 2.3mm, IPC Low Density)
pins: 1 OUT (power) "Regulated Output Voltage. Output can source or sink current. Current limit for sourcing and sinking current is provided to protect the device from fault conditons. The output must have a low ESR output filter capacitor. COUT (See Datasheet)", 2 GND (power) "Ground Pin. The multiple GND pins on the SO-8 package are internally connected, but lowest load regulation errors will result if these pins are tightly connected on the printed circuit board. This will also aid heat (See Datasheet)", 3 IN (power) "Input Supply Pin. This pin should be decoupled with a 1uF or larger low ESR capacitor. The two IN pins on the SO-8 package must be directly connected on the printed circuit board to prevent voltage drops between the two (See Datasheet)", 4 TAB (power) "Ground Pin. The multiple GND pins on the SO-8 package are internally connected, but lowest load regulation errors will result if these pins are tightly connected on the printed circuit board. This will also aid heat (See Datasheet)"

## LT1118CST-2.85#TR
designator U?
Low IQ, Low Dropout, 800 mA, Source and Sink Regulator, 3 to 15 V Vin, 2.85 V Vout, 3-pin SOT223 (ST-3), 0 to 70 degC, Tape and Reel; Manufacturer: Linear Technology; PartNumber: LT1118CST-2.85#TR; Discrete Pass Element: no; Dropout Voltage(V): 1; Iout(mA): 800; Isupply(mA): 0.6; Output Voltage: 2.85 V; PSRR(dB): 80; Vin Max(V): 15; Vin Min(V): 3; DatasheetVersion: Rev. D; PackageVersion: Jun-10; PackageReference: ST-3; PackageDescription: 3-Pin Plastic SOT-223, 3.505 x 6.505 mm Body, Pitch 2.3 mm; Supplier 1: Digi-Key; Supplier Part Number 1: LT1118CST-2.85#TR-ND; Number of Outputs: 1; Packing: Tape and Reel; RoHS: FALSE; Shutdown Current(uA): 1; Mounting Technology: Surface Mount; ComponentLink1Description: Manufacturer URL; ComponentLink1URL: http://www.linear.com/; ComponentLink2Description: Datasheet; ComponentLink2URL: http://cds.linear.com/docs/en/datasheet/1118fd.pdf; ComponentLink3Description: Package Specification; ComponentLink3URL: http://cds.linear.com/docs/en/packaging/SOT_3_05-08-1630.pdf
footprint LT-ST-3-SOT-223_N (SOT223, 4-Leads, Body 6.505x3.505mm, Pitch 2.3mm, IPC Medium Density)
footprint LT-ST-3-SOT-223_L (SOT223, 4-Leads, Body 6.505x3.505mm, Pitch 2.3mm, IPC High Density)
footprint LT-ST-3-SOT-223_M (SOT223, 4-Leads, Body 6.505x3.505mm, Pitch 2.3mm, IPC Low Density)
pins: 1 OUT (power) "Regulated Output Voltage. Output can source or sink current. Current limit for sourcing and sinking current is provided to protect the device from fault conditons. The output must have a low ESR output filter capacitor. COUT (See Datasheet)", 2 GND (power) "Ground Pin. The multiple GND pins on the SO-8 package are internally connected, but lowest load regulation errors will result if these pins are tightly connected on the printed circuit board. This will also aid heat (See Datasheet)", 3 IN (power) "Input Supply Pin. This pin should be decoupled with a 1uF or larger low ESR capacitor. The two IN pins on the SO-8 package must be directly connected on the printed circuit board to prevent voltage drops between the two (See Datasheet)", 4 TAB (power) "Ground Pin. The multiple GND pins on the SO-8 package are internally connected, but lowest load regulation errors will result if these pins are tightly connected on the printed circuit board. This will also aid heat (See Datasheet)"

## LT1118CST-2.85#TRPBF
designator U?
Low IQ, Low Dropout, 800 mA, Source and Sink Regulator, 3 to 15 V Vin, 2.85 V Vout, 3-pin SOT223 (ST-3), 0 to 70 degC, Pb-Free, Tape and Reel; Manufacturer: Linear Technology; PartNumber: LT1118CST-2.85#TRPBF; Discrete Pass Element: no; Dropout Voltage(V): 1; Iout(mA): 800; Isupply(mA): 0.6; Output Voltage: 2.85 V; PSRR(dB): 80; Vin Max(V): 15; Vin Min(V): 3; DatasheetVersion: Rev. D; PackageVersion: Jun-10; PackageReference: ST-3; PackageDescription: 3-Pin Plastic SOT-223, 3.505 x 6.505 mm Body, Pitch 2.3 mm; Supplier 1: Digi-Key; Supplier Part Number 1: LT1118CST-2.85#TRPBF-ND; Number of Outputs: 1; Packing: Tape and Reel; RoHS: TRUE; Shutdown Current(uA): 1; Mounting Technology: Surface Mount; ComponentLink1Description: Manufacturer URL; ComponentLink1URL: http://www.linear.com/; ComponentLink2Description: Datasheet; ComponentLink2URL: http://cds.linear.com/docs/en/datasheet/1118fd.pdf; ComponentLink3Description: Package Specification; ComponentLink3URL: http://cds.linear.com/docs/en/packaging/SOT_3_05-08-1630.pdf
footprint LT-ST-3-SOT-223_N (SOT223, 4-Leads, Body 6.505x3.505mm, Pitch 2.3mm, IPC Medium Density)
footprint LT-ST-3-SOT-223_L (SOT223, 4-Leads, Body 6.505x3.505mm, Pitch 2.3mm, IPC High Density)
footprint LT-ST-3-SOT-223_M (SOT223, 4-Leads, Body 6.505x3.505mm, Pitch 2.3mm, IPC Low Density)
pins: 1 OUT (power) "Regulated Output Voltage. Output can source or sink current. Current limit for sourcing and sinking current is provided to protect the device from fault conditons. The output must have a low ESR output filter capacitor. COUT (See Datasheet)", 2 GND (power) "Ground Pin. The multiple GND pins on the SO-8 package are internally connected, but lowest load regulation errors will result if these pins are tightly connected on the printed circuit board. This will also aid heat (See Datasheet)", 3 IN (power) "Input Supply Pin. This pin should be decoupled with a 1uF or larger low ESR capacitor. The two IN pins on the SO-8 package must be directly connected on the printed circuit board to prevent voltage drops between the two (See Datasheet)", 4 TAB (power) "Ground Pin. The multiple GND pins on the SO-8 package are internally connected, but lowest load regulation errors will result if these pins are tightly connected on the printed circuit board. This will also aid heat (See Datasheet)"